# EAGLE library part KSZ8001 (library at91sam7x-ek)
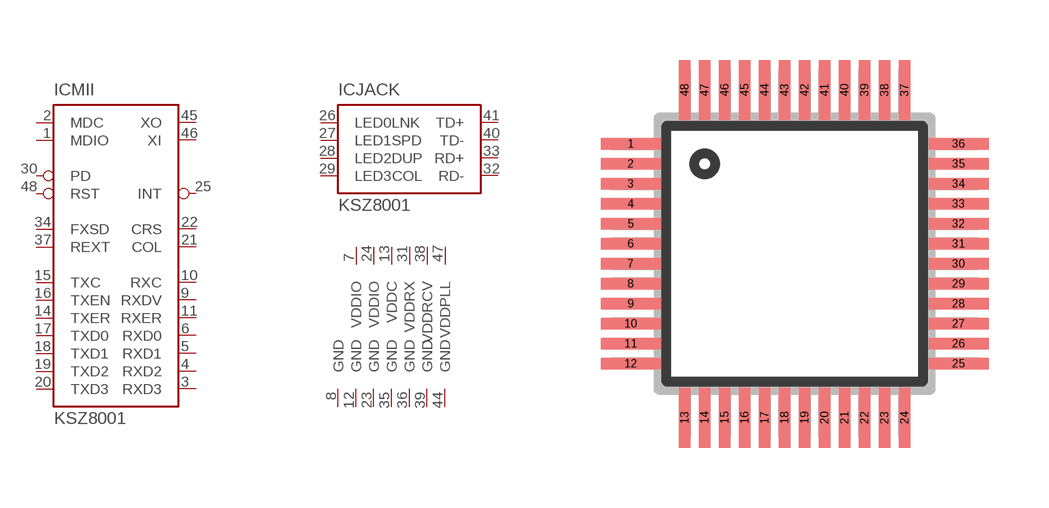
[diagram p7: symbol with the pads of LQFP48; footprint LQFP48]

Designator prefix IC; gates MII=KSZ8001-MII JACK=KSZ8001-JACK G$3=VDDPLL G$4=VDDIO G$5=VDDIO G$6=GND G$7=GND G$8=GND G$9=GND G$10=GND G$11=GND G$12=GND G$13=VDDC G$14=VDDRX G$15=VDDRCV

## KSZ8001  [LQFP48]
1  MII:MDIO
2  MII:MDC  in
3  MII:RXD3  out
4  MII:RXD2  out
5  MII:RXD1  out
6  MII:RXD0  out
7  G$4:VDDIO  pwr
8  G$6:GND  pwr
9  MII:RXDV  out
10  MII:RXC  out
11  MII:RXER  out
12  G$7:GND  pwr
13  G$13:VDDC  pwr
14  MII:TXER  in
15  MII:TXC  in
16  MII:TXEN  in
17  MII:TXD0  in
18  MII:TXD1  in
19  MII:TXD2  in
20  MII:TXD3  in
21  MII:COL  out
22  MII:CRS  out
23  G$8:GND  pwr
24  G$5:VDDIO  pwr
25  MII:INT  out
26  JACK:LED0LNK  out
27  JACK:LED1SPD  out
28  JACK:LED2DUP  out
29  JACK:LED3COL  out
30  MII:PD  in
31  G$14:VDDRX  pwr
32  JACK:RD-
33  JACK:RD+
34  MII:FXSD  in
35  G$9:GND  pwr
36  G$10:GND  pwr
37  MII:REXT  in
38  G$15:VDDRCV  pwr
39  G$11:GND  pwr
40  JACK:TD-
41  JACK:TD+
44  G$12:GND  pwr
45  MII:XO  out
46  MII:XI  in
47  G$3:VDDPLL  pwr
48  MII:RST  in

## Footprint LQFP48 (pad centres in mm)
QFP48 shrink quad flat pack, square
smd 1.5 x 0.297: 1 -4.1,2.75; 2 -4.1,2.25; 3 -4.1,1.75; 4 -4.1,1.25; 5 -4.1,0.75; 6 -4.1,0.25; 7 -4.1,-0.25; 8 -4.1,-0.75; 9 -4.1,-1.25; 10 -4.1,-1.75; 11 -4.1,-2.25; 12 -4.1,-2.75; 25 4.1,-2.75; 26 4.1,-2.25; 27 4.1,-1.75; 28 4.1,-1.25; 29 4.1,-0.75; 30 4.1,-0.25; 31 4.1,0.25; 32 4.1,0.75; 33 4.1,1.25; 34 4.1,1.75; 35 4.1,2.25; 36 4.1,2.75
smd 0.297 x 1.5: 13 -2.75,-4.1; 14 -2.25,-4.1; 15 -1.75,-4.1; 16 -1.25,-4.1; 17 -0.75,-4.1; 18 -0.25,-4.1; 19 0.25,-4.1; 20 0.75,-4.1; 21 1.25,-4.1; 22 1.75,-4.1; 23 2.25,-4.1; 24 2.75,-4.1; 37 2.75,4.1; 38 2.25,4.1; 39 1.75,4.1; 40 1.25,4.1; 41 0.75,4.1; 42 0.25,4.1; 43 -0.25,4.1; 44 -0.75,4.1; 45 -1.25,4.1; 46 -1.75,4.1; 47 -2.25,4.1; 48 -2.75,4.1